# Altium footprint library Avionics_lib.PcbLib: 5 footprints
Each footprint in its own frame and in the unit in brackets; x right, y up, seen from the top. Pads: shape width x height; smd on the part's side, far side on the other; paste and mask are expansions set on the pad; w line width, h text height; cw(c..) or ccw(c..) is an arc to the next point about the centre after c.
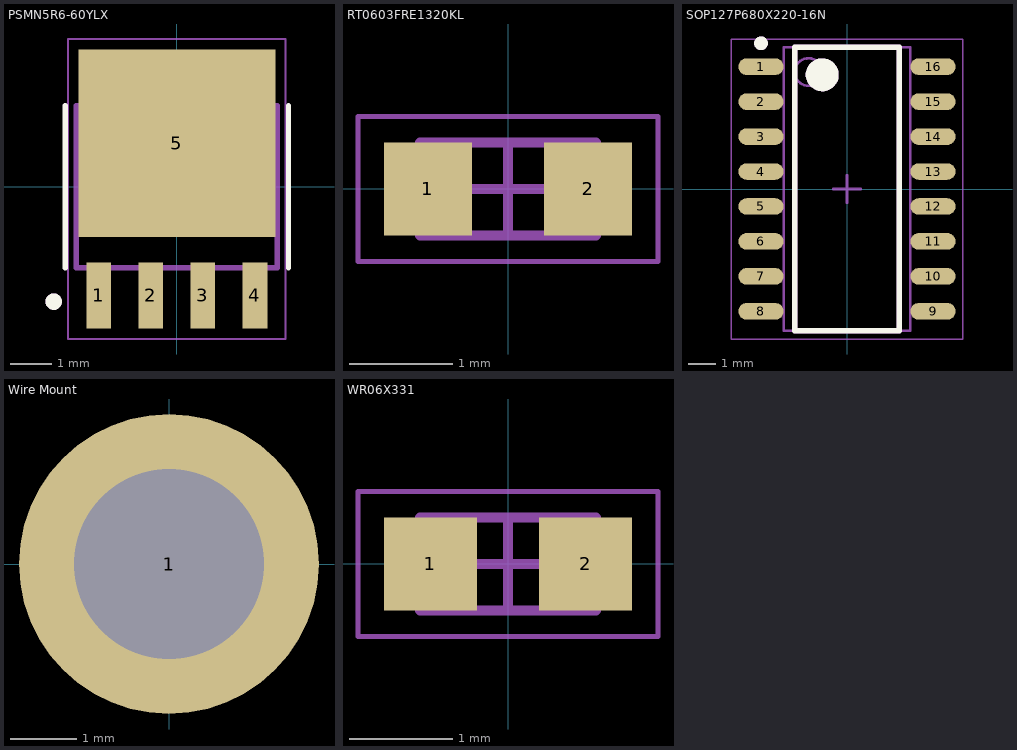
[diagram p0: the footprints below, top view; thin cyan lines are the x and y axes]

## PSMN5R6-60YLX [mm]
pads (5):
  rect 0.6x1.62 smd: 1(-1.905,-2.65) 2(-0.635,-2.65) 3(0.635,-2.65) 4(1.905,-2.65)
  rect 4.8x4.58 smd paste-3: 5(0,1.06)
Top Overlay:
  circle w0.2: c-3,-2.8 r0.1
  lines w0.127: -2.72,-1.975 -2.72,1.975 ; 2.72,-1.975 2.72,1.975
Top Paste:
  region: 1.97,-0.8 0.43,-0.8 0.43,0.63 1.97,0.63
  region: -0.43,-0.8 -1.97,-0.8 -1.97,0.63 -0.43,0.63
  region: 1.97,1.49 0.43,1.49 0.43,2.92 1.97,2.92
  region: -0.43,1.49 -1.97,1.49 -1.97,2.92 -0.43,2.92
Mechanical 13:
  circle w0.2: c-3,-2.8 r0.1
  lines w0.127: -2.45,-1.975 2.45,-1.975 2.45,1.975 -2.45,1.975 -2.45,-1.975
Mechanical 15:
  lines w0.05: -2.65,-3.71 2.65,-3.71 2.65,3.6 -2.65,3.6 -2.65,-3.71

## RT0603FRE1320KL [mm] "20 kOhms ±1% 0.1W, 1/10W Chip Resistor 0603 (1608 Metric) Thin Film"
height 0.55
pads (2):
  rect 0.85x0.9 smd: 1(-0.775,0) 2(0.775,0)
Top Assembly:
  lines w0.1: -0.85,-0.45 -0.85,0.45 0.85,0.45 0.85,-0.45 -0.85,-0.45
Mechanical 15:
  lines w0.05: -1.45,-0.7 -1.45,0.7 1.45,0.7 1.45,-0.7 -1.45,-0.7
  lines w0.1: -0.45,0 0.45,0 ; 0,-0.45 0,0.45
3D body: height 0.55, standoff 0, extent -0.6,-0.45 0.6,0.45
3D body: height 0.55, standoff 0, extent -0.85,-0.45 -0.6,0.45
3D body: height 0.55, standoff 0, extent 0.6,-0.45 0.85,0.45

## SOP127P680X220-16N [mm] "SOP, 16-Leads, Body 10.28x4.40mm, Pitch 1.27mm, IPC Medium Density"
height 2.2
pads (16):
  oval 1.65x0.6 smd: 1(-3.125,4.445) 2(-3.125,3.175) 3(-3.125,1.905) 4(-3.125,0.635) 5(-3.125,-0.635) 6(-3.125,-1.905) 7(-3.125,-3.175) 8(-3.125,-4.445) 9(3.125,-4.445) 10(3.125,-3.175) 11(3.125,-1.905) 12(3.125,-0.635) 13(3.125,0.635) 14(3.125,1.905) 15(3.125,3.175) 16(3.125,4.445)
Top Overlay:
  circle w0.25: c-3.125,5.295 r0.125
  circle w0.6: c-0.9,4.15 r0.3
  lines w0.2: -1.9,-5.15 -1.9,5.15 1.9,5.15 1.9,-5.15 -1.9,-5.15
Top Assembly:
  circle w0.25: c-3.125,5.295 r0.125
  circle w0.6: c-0.9,4.15 r0.3
  lines w0.2: -1.9,-5.15 -1.9,5.15 1.9,5.15 1.9,-5.15 -1.9,-5.15
  text ".Designator" at -3.499,-0.233 h0.7
Mechanical 13:
  circle w0.1: c-1.4,4.25 r0.5
  lines w0.1: -2.3,-5.15 -2.3,5.15 2.3,5.15 2.3,-5.15 -2.3,-5.15
Mechanical 15:
  lines w0.05: -4.2,-5.45 -4.2,5.45 4.2,5.45 4.2,-5.45 -4.2,-5.45
  lines w0.1: -0.5,0 0.5,0 ; 0,-0.5 0,0.5
3D body: height 2.2, standoff 0.11, extent -2.3,-5.15 2.3,5.15

## Wire Mount [mm]
pads (1):
  round 4.5 hole 2.847: 1(0,0)

## WR06X331 [mm] "330 Ohms ±5% 0.1W, 1/10W Chip Resistor 0603 (1608 Metric) Thick Film"
height 0.6
pads (2):
  rect 0.9x0.9 smd: 1(-0.75,0) 2(0.75,0)
Top Assembly:
  lines w0.1: -0.85,-0.45 -0.85,0.45 0.85,0.45 0.85,-0.45 -0.85,-0.45
Mechanical 15:
  lines w0.05: -1.45,-0.7 -1.45,0.7 1.45,0.7 1.45,-0.7 -1.45,-0.7
  lines w0.1: -0.45,0 0.45,0 ; 0,-0.45 0,0.45
3D body: height 0.6, standoff 0, extent -0.55,-0.45 0.55,0.45
3D body: height 0.6, standoff 0, extent -0.85,-0.45 -0.55,0.45
3D body: height 0.6, standoff 0, extent 0.55,-0.45 0.85,0.45